# Altium schematic symbol library interface_Schlib.SchLib: 52 symbols (part 2 of 2)
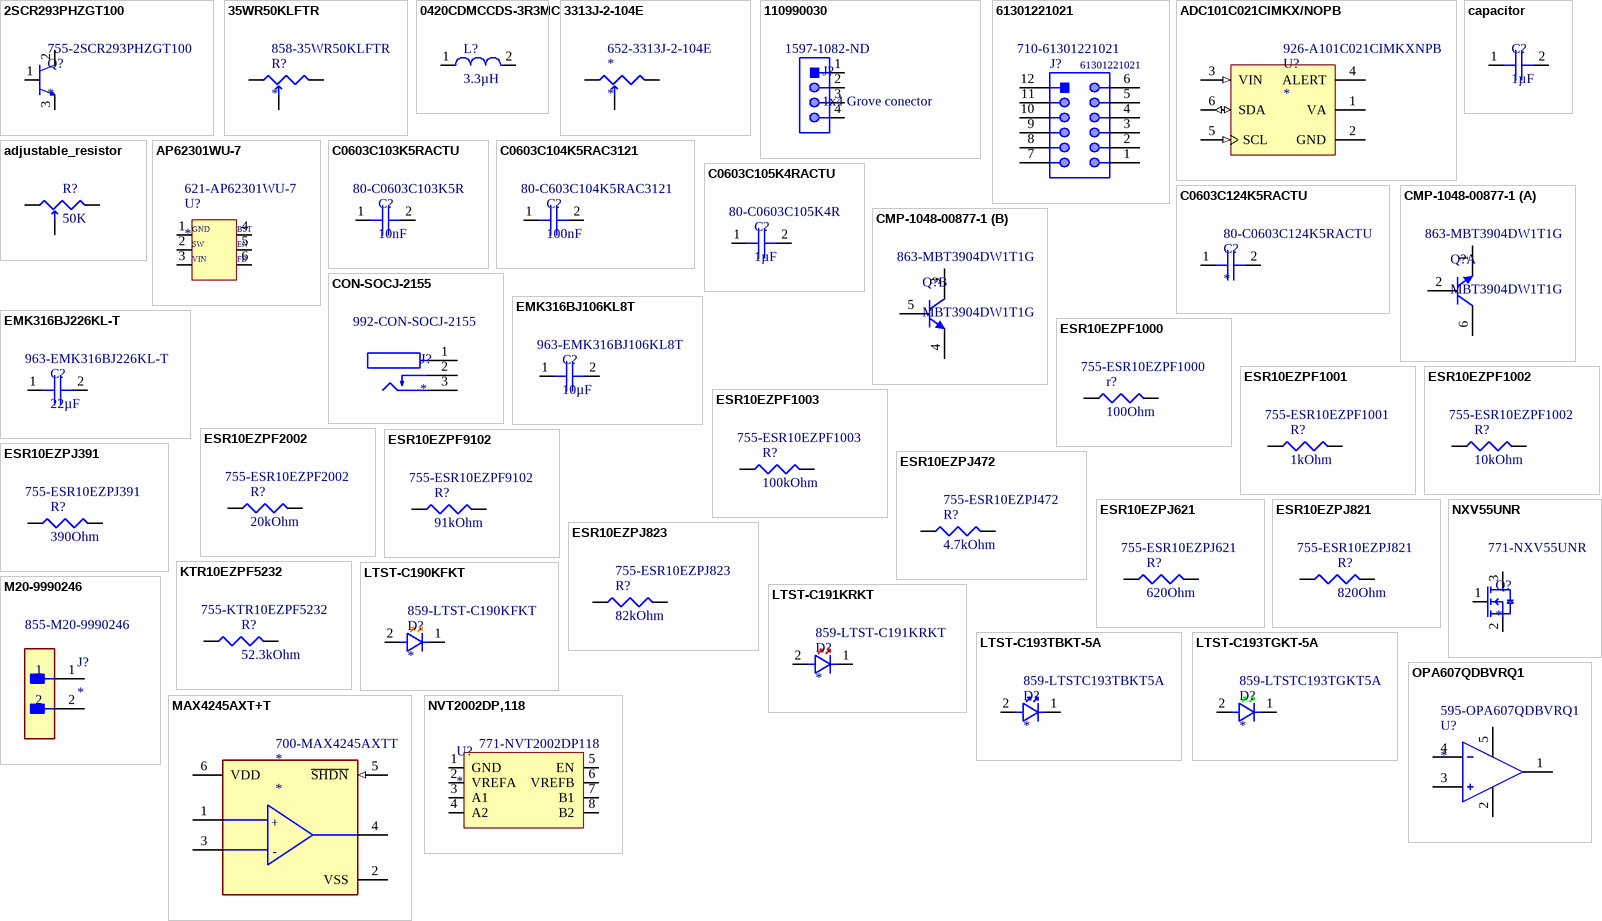
[diagram p2: symbols 2SCR293PHZGT100 to OPA607QDBVRQ1]

## MAX4245AXT+T
designator *  Supplier Part Number 1: 700-MAX4245AXTT
Ultra-Small, Rail-to-Rail I/O with Disable, Single/Dual-Supply, Low-Power Op Amp; Manufacturer: Maxim; Manufacturer Part Number: MAX4245AXT+T; Min Supply Voltage: 2.5V; Max Supply Voltage: 5.5V; Min Dual Supply Voltage: 1.25V; Max Dual Supply Voltage: 2.75V; Voltage Gain: 120dB; Common Mode Rejection Ratio: 65dB; Gain Bandwidth Product: 1MHz; Slew Rate: 0.4V/µs; Input Bias Current: 10nA; Input Offset Voltage (Vos): 400uV; Operating Supply Current: 375uA; Output Current per Channel: 30mA; Amplifier Type: GENERAL PURPOSE; Nominal Supply Current: 320uA; Number of Channels: 1; Supplier 1: Mouser; RoHS: Yes; Category: Amplifiers - Op Amps, Buffer, Instrumentation; Stock 1: 2500; Pricing 1: 1=1,75000, 10=1,57000, 25=1,47000, 50=1,47000, 100=1,24000, 250=1,16000, 500=1,09000, 1000=1,07000, 2500=1,00000, 5000=0,98500, 10000=0,98500 (USD); Mount: Surface Mount; Case/Package: SC; Number of Pins: 6; Min Operating Temperature: -40°C; Max Operating Temperature: 125°C; Packaging: Tape and Reel; Output Current: 30mA; Operating Supply Voltage: 2.75V; Package Quantity: 1; Number of Circuits: 1; Series: -; Supply Current: 320uA; Length: 2.15mm; Width: 1.35mm; Height: 1mm; Radiation Hardening: No; RoHS Compliant: Yes; ComponentLink1URL: https://datasheet.ciiva.com/1819/max4245-max4247-1819317.pdf?src-supplier=Digi-Key; ComponentLink1Description: https://datasheet.ciiva.com/1819/max4245-max4247-1819317.pdf?src-supplier=Digi-Key; ComponentLink2URL: https://datasheet.ciiva.com/1819/max4245-max4247-1819319.pdf?src-supplier=Digi-Key; ComponentLink2Description: https://datasheet.ciiva.com/1819/max4245-max4247-1819319.pdf?src-supplier=Digi-Key; ComponentLink3URL: https://datasheet.ciiva.com/1819/max4245-max4247-1819318.pdf?src-supplier=Digi-Key; ComponentLink3Description: https://datasheet.ciiva.com/1819/max4245-max4247-1819318.pdf?src-supplier=Digi-Key; ComponentLink4URL: https://datasheet.ciiva.com/14347/max4245-max4247-14347439.pdf?src-supplier=Avnet; ComponentLink4Description: https://datasheet.ciiva.com/14347/max4245-max4247-14347439.pdf?src-supplier=Avnet
footprint FP-X6SN-1-IPC_A
pins: 1 IN+ (hiz), 2 VSS (power), 3 IN- (hiz), 4 OUT, 5 ~{SHDN} (in), 6 VDD (power)
text: +

## NVT2002DP,118
designator U?  Supplier Part Number 1: 771-NVT2002DP118
NVT2002 Series Dual Channel 5.5 V Voltage Surface Mount translator - TSSOP-8; Manufacturer: NXP Semiconductors; Manufacturer Part Number: NVT2002DP,118; Max Supply Voltage: 5.5V; Min Supply Voltage: 0V; Number of Channels: 2; Propagation Delay: 1.5ns; Number of Inputs: 4; Operating Frequency-Max: 33MHz; Supplier 1: Mouser; RoHS: Yes; Category: Interface ICs; Stock 1: 807; Pricing 1: 1=0,96000, 10=0,84000, 50=0,84000, 100=0,64400, 1000=0,48000, 10000=0,47900 (USD); Mount: Surface Mount; Case/Package: TSSOP; Number of Pins: 8; Contact Plating: Gold; Min Operating Temperature: -40°C; Max Operating Temperature: 85°C; Logic Function: Translator; Packaging: Tape and Reel; Package Quantity: 1; Number of Bits: 2; Output Type: Voltage; Series: -; Radiation Hardening: No; REACH SVHC: No SVHC; Lead Free: Lead Free; RoHS Compliant: Yes; ComponentLink1URL: https://datasheet.ciiva.com/15096/getdatasheetpartid-296429-15096263.pdf?src-supplier=Verical; ComponentLink1Description: https://datasheet.ciiva.com/15096/getdatasheetpartid-296429-15096263.pdf?src-supplier=Verical; ComponentLink2URL: https://datasheet.ciiva.com/1899/nvt2001-nvt2002-1899002.pdf?src-supplier=Digi-Key; ComponentLink2Description: https://datasheet.ciiva.com/1899/nvt2001-nvt2002-1899002.pdf?src-supplier=Digi-Key; ComponentLink3URL: https://datasheet.ciiva.com/1899/nvt2001-nvt2002-1899004.pdf?src-supplier=Digi-Key; ComponentLink3Description: https://datasheet.ciiva.com/1899/nvt2001-nvt2002-1899004.pdf?src-supplier=Digi-Key; ComponentLink4URL: https://datasheet.ciiva.com/8244/nvt2001-nvt2002-8244200.pdf?src-supplier=Avnet; ComponentLink4Description: https://datasheet.ciiva.com/8244/nvt2001-nvt2002-8244200.pdf?src-supplier=Avnet; ComponentLink5URL: https://datasheet.ciiva.com/1899/nvt2001-nvt2002-1899003.pdf?src-supplier=Digi-Key; ComponentLink5Description: https://datasheet.ciiva.com/1899/nvt2001-nvt2002-1899003.pdf?src-supplier=Digi-Key; ComponentLink6URL: https://datasheet.ciiva.com/16213/nvt2001-nvt2002-16213084.pdf?src-supplier=Future+Electronics; ComponentLink6Description: https://datasheet.ciiva.com/16213/nvt2001-nvt2002-16213084.pdf?src-supplier=Future+Electronics
pins: 1 GND, 2 VREFA "low-voltage side", 3 A1, 4 A2, 5 EN "high-voltage side", 6 VREFB "high-voltage side", 7 B1, 8 B2

## NXV55UNR
designator Q?  Supplier Part Number 1: 771-NXV55UNR
Transistor MOSFET N-Channel 30V 2.3A 3-Pin SOT-23; Manufacturer: Nexperia; Manufacturer Part Number: NXV55UNR; Supplier 1: Mouser; RoHS: No; Stock 1: 55565; Pricing 1: 1=0,45000, 10=0,34400, 50=0,34400, 100=0,19500, 1000=0,09900, 10000=0,06800 (USD)
footprint SOT95P230X110-3N
pins: 1, 2, 3

## OPA607QDBVRQ1
designator U?  Supplier Part Number 1: 595-OPA607QDBVRQ1
Automotive, 50-MHz, low-power, gain of 6-V/V stable, rail-to-rail output CMOS operational amplifier 5-SOT-23 -40 to 125; Manufacturer: Texas Instruments; Manufacturer Part Number: OPA607QDBVRQ1; Supplier 1: Mouser; RoHS: Yes; Stock 1: 4836; Pricing 1: 1=1,44000, 10=1,30000, 25=1,23000, 50=1,23000, 100=1,01000, 250=0,94200, 500=0,83200, 1000=0,65700, 3000=0,63500, 10000=0,63500 (USD)
footprint FP-DBV0005A-IPC_A
pins: 1 OUT, 2 VS- (power), 3 IN+ (hiz), 4 IN- (hiz), 5 VS+ (power)

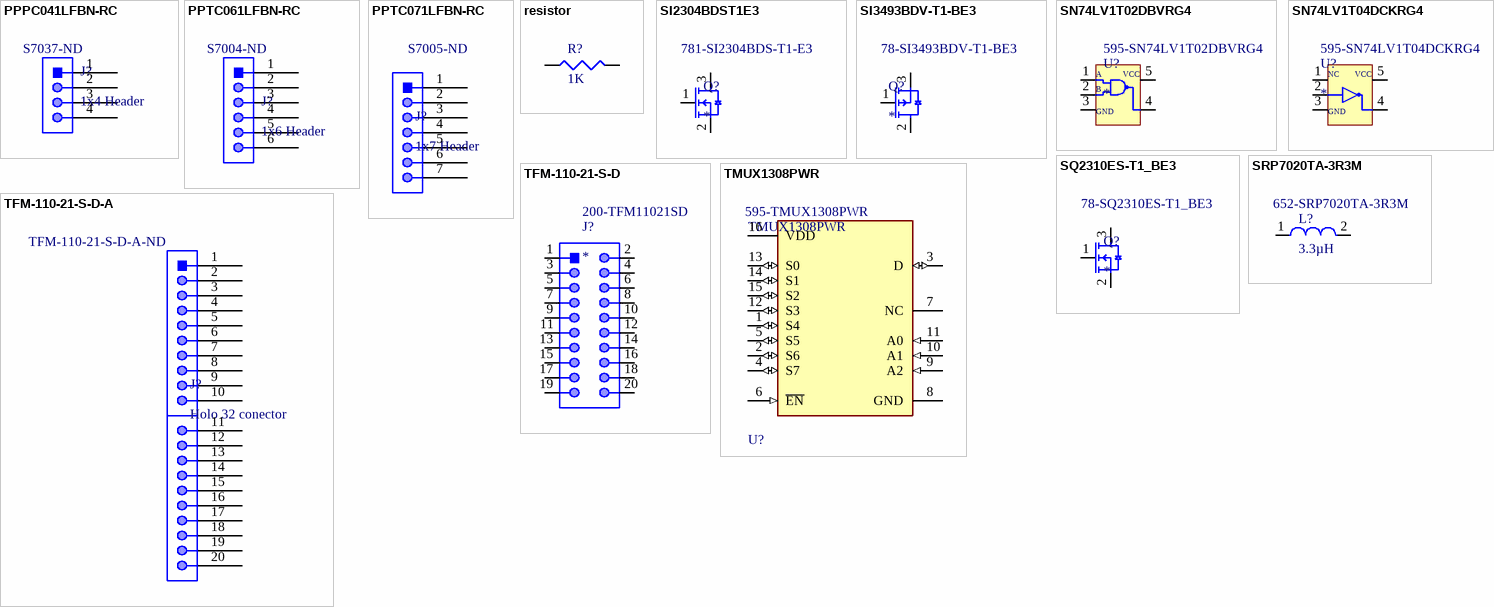
[diagram p1: symbols PPPC041LFBN-RC to TMUX1308PWR]

## PPPC041LFBN-RC
designator J?, comment 1x4 Header  Supplier Part Number 1: S7037-ND
4 Positions Embase Connecteur 0,100 po (2,54mm) Trou traversant Or; Manufacturer: Sullins; Manufacturer Part Number: PPPC041LFBN-RC; Number of Positions: 4; Pitch: 0.1inch; Supplier 1: Digi-Key; RoHS: Yes; Category: Connectors; Stock 1: 100451; Pricing 1: 1=0,47000, 10=0,40700, 100=0,33530, 500=0,29160, 1000=0,24057, 5000=0,21141, 10000=0,21060 (USD); Mount: Through Hole; Color: Black; Contact Plating: Gold; Contact Material: Bronze; Housing Material: Plastic; Package Quantity: 1000; Number of Rows: 1; Packaging: Bulk; Termination: Solder; Connector Type: Header; Contact Type: Female Socket; Length: 10.7mm; Width: 2.5mm; Height: 8.5mm; Lead Free: Lead Free; RoHS Compliant: Yes; ComponentLink1URL: https://media.digikey.com/pdf/Data%20Sheets/Sullins%20PDFs/Female_Headers.100_DS.pdf?src-supplier=Digi-Key; ComponentLink1Description: https://media.digikey.com/pdf/Data%20Sheets/Sullins%20PDFs/Female_Headers.100_DS.pdf?src-supplier=Digi-Key; ComponentLink2URL: http://www.sullinscorp.com/catalogs/78_Page80-81_HEADER_.100_2.54mm_FEMALE.pdf?src-supplier=Future+Electronics; ComponentLink2Description: http://www.sullinscorp.com/catalogs/78_Page80-81_HEADER_.100_2.54mm_FEMALE.pdf?src-supplier=Future+Electronics
footprint header 1x4
pins: 1, 2, 3, 4

## PPTC061LFBN-RC
designator J?, comment 1x6 Header  Supplier Part Number 1: S7004-ND
Female, 6 C, Straight, .100"CC; 3.20mm Tail, No Mt. 100u" Tin; PBT, Phos Bronze, 105 C; Manufacturer: Sullins; Manufacturer Part Number: PPTC061LFBN-RC; Supplier 1: Digi-Key; RoHS: Yes; Category: Connectors; Stock 1: 131305; Pricing 1: 1=0,52000, 10=0,44900, 80=0,37050, 440=0,32220, 1000=0,26582, 5000=0,23360, 10000=0,23270 (USD); ComponentLink1URL: https://media.digikey.com/pdf/Data%20Sheets/Sullins%20PDFs/Female_Headers.100_DS.pdf?src-supplier=Digi-Key; ComponentLink1Description: https://media.digikey.com/pdf/Data%20Sheets/Sullins%20PDFs/Female_Headers.100_DS.pdf?src-supplier=Digi-Key; ComponentLink2URL: http://www.sullinscorp.com/catalogs/78_Page80-81_HEADER_.100_2.54mm_FEMALE.pdf?src-supplier=Future+Electronics; ComponentLink2Description: http://www.sullinscorp.com/catalogs/78_Page80-81_HEADER_.100_2.54mm_FEMALE.pdf?src-supplier=Future+Electronics
footprint header 1x6
pins: 1, 2, 3, 4, 5, 6

## PPTC071LFBN-RC
designator J?, comment 1x7 Header  Supplier Part Number 1: S7005-ND
Female, 7C, Straight, .100"CC; 3.20mm Tail, No Mt. 100u" Tin; PBT, Phos Bronze, 105 C; Manufacturer: Sullins; Manufacturer Part Number: PPTC071LFBN-RC; Number of Positions: 7; Connector Type: Header,Socket; Pitch: 0.1inch; Supplier 1: Digi-Key; RoHS: Yes; Category: Connectors; Stock 1: 23266; Pricing 1: 1=0,59000, 10=0,51500, 80=0,42438, 440=0,36900, 1000=0,30442, 5000=0,26752, 10000=0,26650 (USD); Mount: Through Hole; Contact Material: Bronze; Contact Plating: Tin; Color: Black; Housing Material: Plastic; Termination: Solder; Package Quantity: 1000; Number of Rows: 1; Packaging: Bulk; Length: 18.3mm; Width: 2.5mm; Height: 8.5mm; Lead Free: Lead Free; ComponentLink1URL: https://media.digikey.com/pdf/Data%20Sheets/Sullins%20PDFs/Female_Headers.100_DS.pdf?src-supplier=Digi-Key; ComponentLink1Description: https://media.digikey.com/pdf/Data%20Sheets/Sullins%20PDFs/Female_Headers.100_DS.pdf?src-supplier=Digi-Key; ComponentLink2URL: http://www.sullinscorp.com/catalogs/78_Page80-81_HEADER_.100_2.54mm_FEMALE.pdf?src-supplier=Future+Electronics; ComponentLink2Description: http://www.sullinscorp.com/catalogs/78_Page80-81_HEADER_.100_2.54mm_FEMALE.pdf?src-supplier=Future+Electronics
footprint header 1x7
pins: 1, 2, 3, 4, 5, 6, 7

## resistor
designator R?, comment 1K
footprint RESC2013X50X30ML20T20 (Chip Resistor, 2-Leads, Body 2.00x1.25mm, IPC Low Density)
pins: 1, 2

## SI2304BDST1E3
designator Q?  Supplier Part Number 1: 781-SI2304BDS-T1-E3
Single N-Channel 30 V 0.07 Ohms Surface Mount Power Mosfet - SOT-23; Manufacturer: Vishay; Manufacturer Part Number: SI2304BDST1E3; On-State Resistance: 70mR; Rise Time: 12.5ns; Nominal Vgs: 1.5V; Input Capacitance: 225pF; Number of Channels: 1; Max Power Dissipation: 750mW; Drain to Source Voltage (Vdss): 30V; Continuous Drain Current (ID): 2.6A; Gate to Source Voltage (Vgs): 20V; Turn-Off Delay Time: 19ns; Turn-On Delay Time: 7.5ns; Supplier 1: Mouser; RoHS: Yes; Category: MOSFETs; Stock 1: 13203; Pricing 1: 1=0,67000, 10=0,57800, 50=0,57800, 100=0,43200, 500=0,33900, 1000=0,26200, 3000=0,23800, 10000=0,23800 (USD); Mount: Surface Mount; Case/Package: SOT-23; Number of Pins: 3; Weight: 0.050717oz; Min Operating Temperature: -55°C; Max Operating Temperature: 150°C; Element Configuration: Single; Packaging: Tape and Reel; Package Quantity: 1; Rds On Max: 70mR; Number of Elements: 1; Drain to Source Breakdown Voltage: 30V; Drain to Source Resistance: 70mR; Fall Time: 12.5ns; Threshold Voltage: 1.5V; Power Dissipation: 750mW; Length: 3.04mm; Width: 1.4mm; Height: 1.02mm; Radiation Hardening: No; REACH SVHC: Unknown; Lead Free: Lead Free; ComponentLink1URL: https://datasheet.ciiva.com/16225/si2304bds-16225072.pdf?src-supplier=Future+Electronics; ComponentLink1Description: https://datasheet.ciiva.com/16225/si2304bds-16225072.pdf?src-supplier=Future+Electronics; ComponentLink2URL: https://datasheet.ciiva.com/22707/1674170-22707810.pdf?src-supplier=Element14; ComponentLink2Description: https://datasheet.ciiva.com/22707/1674170-22707810.pdf?src-supplier=Element14; ComponentLink3URL: https://datasheet.ciiva.com/4439/si2304bds-107231-4439578.pdf?src-supplier=Mouser; ComponentLink3Description: https://datasheet.ciiva.com/4439/si2304bds-107231-4439578.pdf?src-supplier=Mouser; ComponentLink4URL: https://datasheet.ciiva.com/11161/si2304bds-11161450.pdf?src-supplier=Avnet; ComponentLink4Description: https://datasheet.ciiva.com/11161/si2304bds-11161450.pdf?src-supplier=Avnet; ComponentLink5URL: https://datasheet.ciiva.com/6367/si2304bds-6367035.pdf?src-supplier=Digi-Key; ComponentLink5Description: https://datasheet.ciiva.com/6367/si2304bds-6367035.pdf?src-supplier=Digi-Key; ComponentLink6URL: https://datasheet.ciiva.com/46386/1912647-46386540.pdf?src-supplier=Element14; ComponentLink6Description: https://datasheet.ciiva.com/46386/1912647-46386540.pdf?src-supplier=Element14; ComponentLink7URL: https://datasheet.ciiva.com/6367/si2304bds-6367038.pdf?src-supplier=Digi-Key; ComponentLink7Description: https://datasheet.ciiva.com/6367/si2304bds-6367038.pdf?src-supplier=Digi-Key
footprint FP-SI2304BDST1E3
pins: 1, 2, 3

## SI3493BDV-T1-BE3
designator Q?  Supplier Part Number 1: 78-SI3493BDV-T1-BE3
Transistor MOSFET P-CH 20V 8A 6-Pin TSOP; Manufacturer: Vishay; Manufacturer Part Number: SI3493BDV-T1-BE3; Supplier 1: Mouser; Stock 1: 1029; Pricing 1: 1=0,90000, 10=0,81200, 50=0,81200, 100=0,63300, 1000=0,41300, 10000=0,38700 (USD); ComponentLink1URL: https://datasheet.octopart.com/SI3493BDV-T1-BE3-Vishay-datasheet-140480787.pdf?src-supplier=Future+Electronics; ComponentLink1Description: https://datasheet.octopart.com/SI3493BDV-T1-BE3-Vishay-datasheet-140480787.pdf?src-supplier=Future+Electronics
pins: 1, 2, 3

## SN74LV1T02DBVRG4
designator U?  Supplier Part Number 1: 595-SN74LV1T02DBVRG4
Single Power Supply 2-input POSITIVE NOR GATE Logic Level Shifter 5-SOT-23 -40 to 125; Manufacturer: Texas Instruments; Manufacturer Part Number: SN74LV1T02DBVRG4; Number of Bits: 1; Number of Inputs: 2; Quiescent Current: 10uA; High Level Output Current: 8mA; Propagation Delay: 7ns; Supplier 1: Mouser; RoHS: Yes; Category: Logic Gates; Stock 1: 2805; Pricing 1: 1=0,56000, 10=0,47800, 50=0,47800, 100=0,33100, 500=0,28000, 1000=0,21700, 3000=0,19700, 6000=0,18400, 10000=0,18400 (USD); Mount: Surface Mount; Case/Package: SOT-23-5; Min Operating Temperature: -40°C; Max Operating Temperature: 125°C; Logic Function: NOR GATE; Packaging: Cut Tape; Number of Circuits: 1; Low Level Output Current: 8mA; RoHS Compliant: Yes; ComponentLink1URL: http://www.ti.com/lit/ds/symlink/sn74lv1t02.pdf?src-supplier=Digi-Key; ComponentLink1Description: http://www.ti.com/lit/ds/symlink/sn74lv1t02.pdf?src-supplier=Digi-Key; ComponentLink2URL: http://www.ti.com/general/docs/suppproductinfo.tsp?distId=10&amp;gotoUrl=http%3A%2F%2Fwww.ti.com%2Flit%2Fgpn%2Fsn74lv1t02&src-supplier=Digi-Key; ComponentLink2Description: http://www.ti.com/general/docs/suppproductinfo.tsp?distId=10&amp;gotoUrl=http%3A%2F%2Fwww.ti.com%2Flit%2Fgpn%2Fsn74lv1t02&src-supplier=Digi-Key
footprint FP-DBV0005A-IPC_A
pins: 1, 2, 3 GND, 4, 5 VCC
text: A; B

## SN74LV1T04DCKRG4
designator U?  Supplier Part Number 1: 595-SN74LV1T04DCKRG4
Single Power Supply INVERTER Gate logic level shifter 5-SC70; Manufacturer: Texas Instruments; Manufacturer Part Number: SN74LV1T04DCKRG4; Number of Circuits: 1; Quiescent Current: 10uA; High Level Output Current: 8mA; Propagation Delay: 7ns; Supplier 1: Mouser; RoHS: Yes; Category: Logic Gates; Stock 1: 13588; Pricing 1: 1=0,56000, 10=0,47800, 50=0,47800, 100=0,33100, 1000=0,21700, 10000=0,19700 (USD); Mount: Surface Mount; Min Operating Temperature: -40°C; Max Operating Temperature: 125°C; Logic Function: Inverter; Packaging: Cut Tape; Number of Inputs: 1; Low Level Output Current: 8mA; RoHS Compliant: Yes; ComponentLink1URL: http://www.ti.com/general/docs/suppproductinfo.tsp?distId=10&amp;gotoUrl=http%3A%2F%2Fwww.ti.com%2Flit%2Fgpn%2Fsn74lv1t04&src-supplier=Digi-Key; ComponentLink1Description: http://www.ti.com/general/docs/suppproductinfo.tsp?distId=10&amp;gotoUrl=http%3A%2F%2Fwww.ti.com%2Flit%2Fgpn%2Fsn74lv1t04&src-supplier=Digi-Key
footprint SOT65P210X110-5N
pins: 1 NC, 2, 3 GND, 4, 5 VCC

## SQ2310ES-T1_BE3
designator Q?  Supplier Part Number 1: 78-SQ2310ES-T1_BE3
Transistor MOSFET P-Channel 20V 3.9A Automotive 3-Pin SOT-23; Manufacturer: Vishay; Manufacturer Part Number: SQ2310ES-T1_BE3; Supplier 1: Mouser; RoHS: No; Stock 1: 15909; Pricing 1: 1=0,94000, 10=0,83000, 50=0,83000, 100=0,63700, 1000=0,40300, 10000=0,37700 (USD)
pins: 1, 2, 3

## SRP7020TA-3R3M
designator L?, comment 3.3µH  Supplier Part Number 1: 652-SRP7020TA-3R3M
Inductor Power Shielded Wirewound 3.3uH 20% 100KHz 15Q-Factor Metal Alloy Powder 5A 0.048Ohm DCR T/R; Manufacturer: Bourns; Manufacturer Part Number: SRP7020TA-3R3M; RoHS: No; Stock 1: 2936; Pricing 1: 1=1,46000, 10=1,09000, 50=1,09000, 100=0,98300, 250=0,87800, 500=0,75300, 1000=0,66900, 1500=0,64200, 3000=0,59800, 9000=0,56900, 10000=0,56900 (USD); Supplier 1: Mouser
footprint INDC7066X20N (Chip Inductor, 2-Leads, Body 7,00x6,60mm, IPC Medium Density)
pins: 1, 2

## TFM-110-21-S-D
designator J?  Supplier Part Number 1: 200-TFM11021SD
SAMTEC         TFM-110-21-S-D             Board-To-Board Connector, TFM Series, 20 Contacts, Header, 1.27 mm, Through Hole, 2 Rows; Max Current Rating: 5A; Number of Contacts: 20; Max Voltage Rating (AC): 350V; Gender: Male; Pitch: 1.27mm; Supplier 1: Mouser; Manufacturer: Samtec; Manufacturer Part Number: TFM-110-21-S-D; RoHS: Yes; Category: Connectors; Stock 1: 11; Pricing 1: 1=7,99000, 10=7,65000, 50=7,65000, 100=7,65000, 1000=5,32000, 10000=4,66000 (USD); Housing Color: Black; Housing Material: Polymer; Contact Plating: Gold; Contact Material: Bronze; Min Operating Temperature: -55°C; Max Operating Temperature: 125°C; Packaging: Rail/Tube; Number of Rows: 2; Termination: Solder; Orientation: Straight; Length: 15.88mm; Depth: 5.72mm; REACH SVHC: No SVHC; RoHS Compliant: Yes; ComponentLink1URL: http://www.farnell.com/datasheets/2047776.pdf?src-supplier=Farnell; ComponentLink1Description: http://www.farnell.com/datasheets/2047776.pdf?src-supplier=Farnell; ComponentLink2URL: http://www.samtec.com/documents/webfiles/pdf/TFM_SM.PDF?src-supplier=Avnet; ComponentLink2Description: http://www.samtec.com/documents/webfiles/pdf/TFM_SM.PDF?src-supplier=Avnet
footprint SAMTEC_TFM-110-21-S-D
pins: 1, 2, 3, 4, 5, 6, 7, 8, 9, 10, 11, 12, 13, 14, 15, 16, 17, 18, 19, 20

## TFM-110-21-S-D-A
designator J?, comment Holo 32 conector  Supplier Part Number 1: TFM-110-21-S-D-A-ND
Headers & Wire Housings High-Reliability Tiger Eye Terminal Strips, .050 Pitch; Manufacturer: Samtec; Manufacturer Part Number: TFM-110-21-S-D-A; Max Current Rating: 5A; Number of Contacts: 20; Max Voltage Rating (AC): 350V; Gender: Male; Pitch: 1.27mm; Supplier 1: Digi-Key; RoHS: Yes; Category: Connectors; Stock 1: 45; Pricing 1: 1=8,39000, 35=7,16771, 105=6,64333, 455=5,59440, 945=4,89510 (USD); Housing Color: Black; Housing Material: Polymer; Contact Plating: Gold; Contact Material: Bronze; Min Operating Temperature: -55°C; Max Operating Temperature: 125°C; Packaging: Rail/Tube; Number of Rows: 2; Termination: Solder; Orientation: Straight; Length: 15.88mm; Depth: 5.72mm; REACH SVHC: No SVHC; RoHS Compliant: Yes; ComponentLink1URL: http://www.farnell.com/datasheets/2047776.pdf?src-supplier=Farnell; ComponentLink1Description: http://www.farnell.com/datasheets/2047776.pdf?src-supplier=Farnell; ComponentLink2URL: http://components.arrow.com/part/dataview/2691576S7516801N1004?src-supplier=Arrow+Electronics; ComponentLink2Description: http://components.arrow.com/part/dataview/2691576S7516801N1004?src-supplier=Arrow+Electronics; ComponentLink3URL: http://www.samtec.com/documents/webfiles/pdf/TFM_SM.PDF?src-supplier=Avnet; ComponentLink3Description: http://www.samtec.com/documents/webfiles/pdf/TFM_SM.PDF?src-supplier=Avnet
footprint SAMTEC_TFM-110-21-S-D-A
pins: 1, 2, 3, 4, 5, 6, 7, 8, 9, 10, 11, 12, 13, 14, 15, 16, 17, 18, 19, 20

## TMUX1308PWR
designator U?  Supplier Part Number 1: 595-TMUX1308PWR
1-CHANNEL, 8:1 GENERAL-PURPOSE A; Supplier 1: Mouser
footprint FP-PW0016A-IPC_A
pins: 1 S4 (io), 2 S6 (io), 3 D (io), 4 S7 (io), 5 S5 (io), 6 ~{EN} (in), 7 NC (power), 8 GND (power), 9 A2 (in), 10 A1 (in), 11 A0 (in), 12 S3 (io), 13 S0 (io), 14 S1 (io), 15 S2 (io), 16 VDD (power)